# Altium footprint library uFL SMT.PcbLib: 1 footprints
Each footprint in its own frame and in the unit in brackets; x right, y up, seen from the top. Pads: shape width x height; smd on the part's side, far side on the other; paste and mask are expansions set on the pad; w line width, h text height; cw(c..) or ccw(c..) is an arc to the next point about the centre after c.
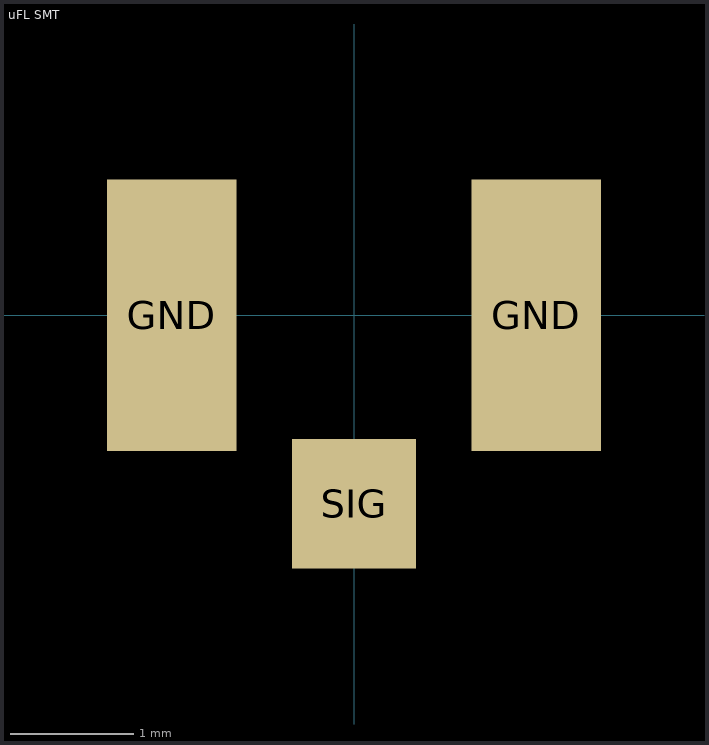
[diagram p0: the footprint, top view; thin cyan lines are the x and y axes]

## uFL SMT [mm] "Surface Mount uFL connector"
pads (3):
  rect 1.05x2.2 all layers, no hole: GND(-1.475,0) GND(1.475,0)
  rect 1x1.05 all layers, no hole: SIG(0,-1.525)